# Altium schematic symbol library M74RAPWR_module.SchLib: 1 symbol
Pins are listed as number, name and electrical type; pins without a type are passive.

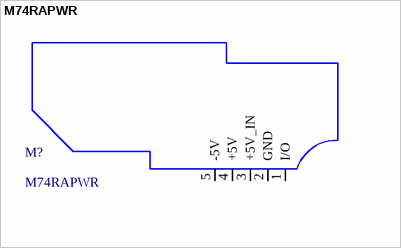
[diagram p0: symbol M74RAPWR]

## M74RAPWR
designator M?
M74RAPWR module PCB; Value: M74RAPWR
pins: 1 I/O (power), 2 GND (power), 3 +5V_IN (power), 4 +5V (power), 5 -5V (power)